# EAGLE library part ADP3110A (library on-semi)
12 V MOSFET Driver Dual bootstrapped with output disable
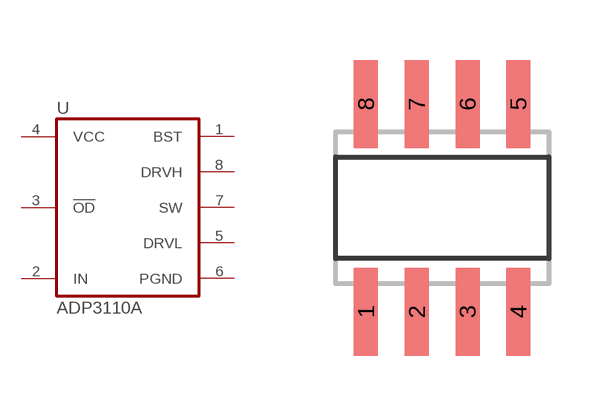
[diagram p4: symbol with the pads of SO08; footprint SO08]

Designator prefix U

## ADP3110AD (DIGIKEY: ADP3110AKRZ-RLOSCT-ND; P1I: o)  [SO08]
1  BST  pas
2  IN  in
3  !OD!
4  VCC
5  DRVL  out
6  PGND  pas
7  SW  pas
8  DRVH  out

## Footprint SO08 (pad centres in mm)
SMALL OUTLINE INTEGRATED CIRCUIT body 3.9 mm/JEDEC MS-012AA
smd 0.6 x 2.2: 1 -1.905,-2.6; 2 -0.635,-2.6; 3 0.635,-2.6; 4 1.905,-2.6; 5 1.905,2.6; 6 0.635,2.6; 7 -0.635,2.6; 8 -1.905,2.6